# EAGLE library part SAMACSYS_PARTS_ZX62-B-5PA_33_ (library ExportCompute Module)
USB Connectors MICRO B RECEPT RA SMT BTTM MNT Source: Datasheet <https://www.hirose.com/product/download/?distributor=digikey&type=specSheet&lang=en&num=ZX62-B-5PA(33)>
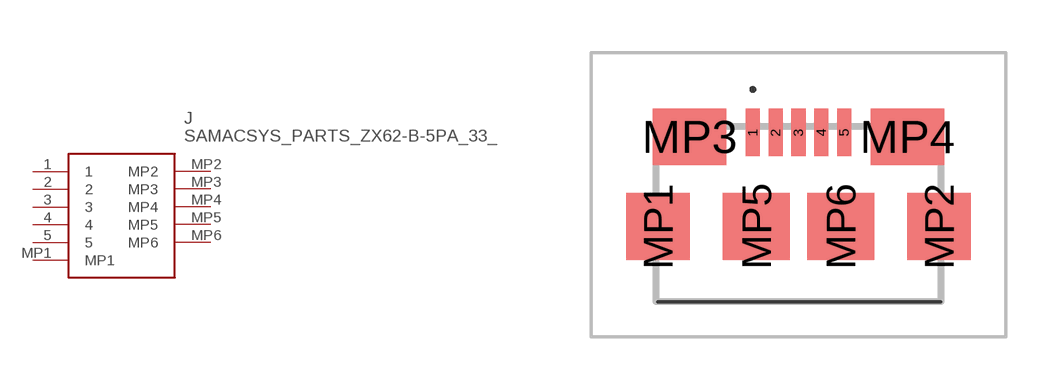
[diagram p21: symbol with the pads of SAMACSYS_PARTS_ZX62B5PA33; footprint SAMACSYS_PARTS_ZX62B5PA33]

Designator prefix J

## SAMACSYS_PARTS_ZX62-B-5PA_33_ (DIGIKEY: H125270CT-ND; MANUFACTURER: Hirose; MPN: ZX62-B-5PA(33))  [SAMACSYS_PARTS_ZX62B5PA33]
1  1
2  2
3  3
4  4
5  5
MP1  MP1
MP2  MP2
MP3  MP3
MP4  MP4
MP5  MP5
MP6  MP6

## Footprint SAMACSYS_PARTS_ZX62B5PA33 (pad centres in mm)
ZX62-B-5PA(33)-3
smd 0.4 x 1.35: 1 -1.3,2.325; 2 -0.65,2.325; 3 0,2.325; 4 0.65,2.325; 5 1.3,2.325
smd 1.8 x 1.9: MP1 -4,-0.35; MP2 4,-0.35
smd 2.1 x 1.6: MP3 -3.1,2.2; MP4 3.1,2.2
smd 1.9 x 1.9: MP5 -1.2,-0.35; MP6 1.2,-0.35